# Altium schematic symbol library Boost.SchLib: 1 symbol
Pins are listed as number, name and electrical type; pins without a type are passive.

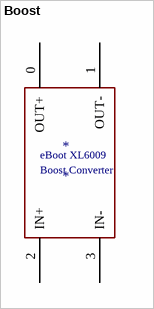
[diagram p0: symbol Boost]

## Boost
designator *
pins: 0 OUT+, 1 OUT-, 2 IN+, 3 IN-
text: eBoot XL6009; Boost Converter